# Altium integrated library CH340E_v2.IntLib: 1 symbol
Pins are listed as number, name and electrical type; pins without a type are passive.

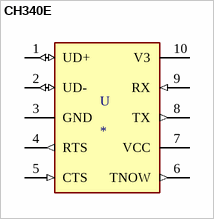
[diagram p0: symbol CH340E]

## CH340E
designator U
USB to serial chip CH340; MP: CH340E; MF: WCH; Availability: Unavailable; SnapEDA_Link: https://www.snapeda.com/parts/CH340E/WCH/view-part/3625184/?ref=snap; Package: Package Analog Devices; Price: None; Value: *
footprint MSOP10
pins: 1 UD+ (io), 2 UD- (io), 3 GND (power), 4 RTS (out), 5 CTS (in), 6 TNOW (out), 7 VCC (power), 8 TX (out), 9 RX (in), 10 V3 (power)